# Altium footprint library Crystal.PcbLib: 8 footprints
Each footprint in its own frame and in the unit in brackets; x right, y up, seen from the top. Pads: shape width x height; smd on the part's side, far side on the other; paste and mask are expansions set on the pad; w line width, h text height; cw(c..) or ccw(c..) is an arc to the next point about the centre after c.
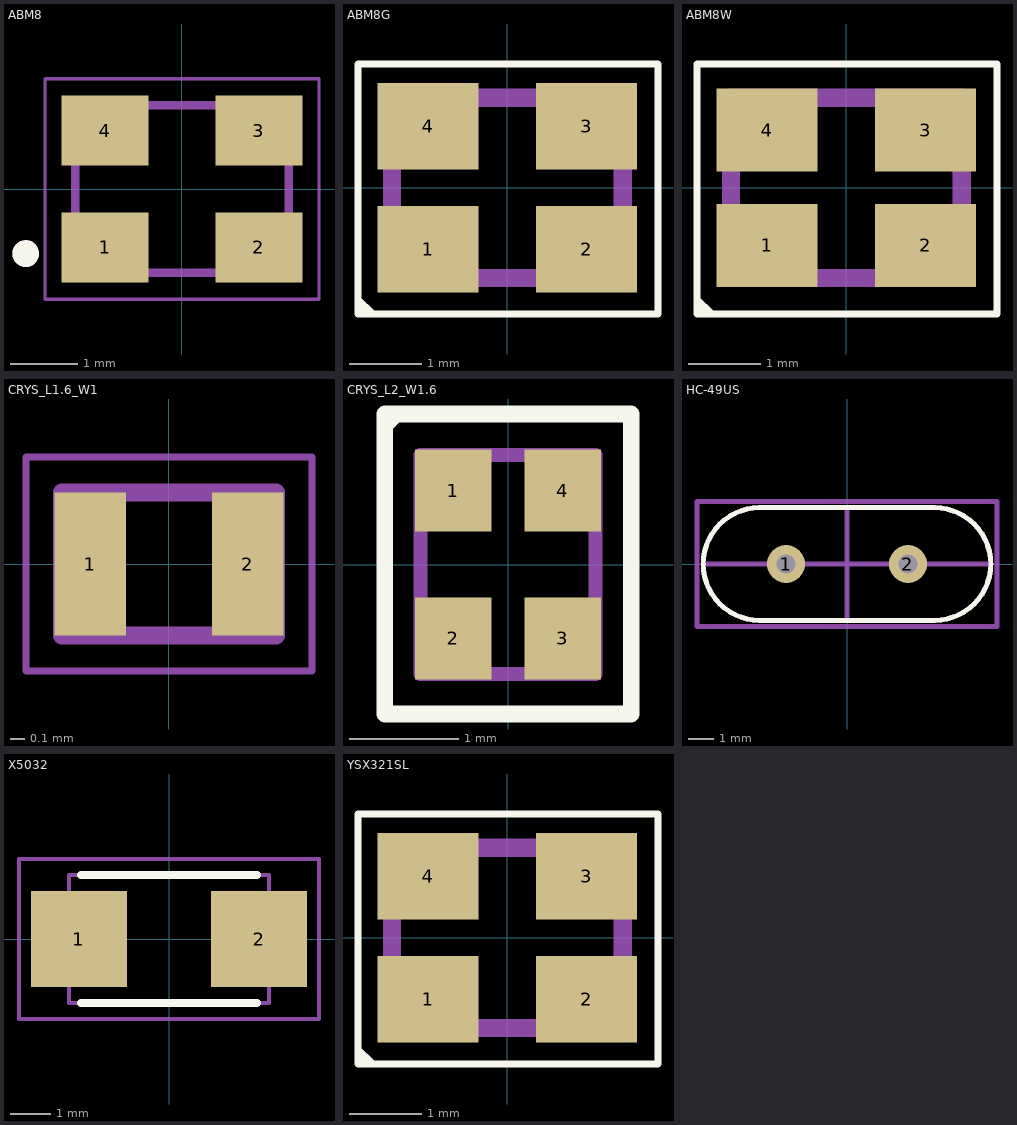
[diagram p0: the footprints below, top view; thin cyan lines are the x and y axes]

## ABM8 [mm]
pads (4):
  rect 1.3x1.05 smd: 1(-1.15,-0.875) 2(1.15,-0.875) 3(1.15,0.875) 4(-1.15,0.875)
Top Overlay:
  circle w0.2: c-2.338,-0.966 r0.1
Mechanical 13:
  circle w0.2: c-2.338,-0.966 r0.1
  lines w0.127: -1.6,-1.25 -1.6,1.25 1.6,1.25 1.6,-1.25 -1.6,-1.25
Mechanical 15:
  lines w0.05: -2.05,-1.65 -2.05,1.65 2.05,1.65 2.05,-1.65 -2.05,-1.65
3D body "step_temp.STEP": height 0.7, standoff 0, extent -1.6,-1.25 1.6,1.25

## ABM8G [mm]
pads (4):
  rect 1.4x1.2 smd: 1(-1.1,-0.85) 2(1.1,-0.85) 3(1.1,0.85) 4(-1.1,0.85)
Top Overlay:
  lines w0.1: -2.071,-1.528 -2.071,-1.547 -1.887,-1.732 -2.014,-1.732 -2.025,-1.72 -2.025,-1.618 ; -2.071,-1.75 -2.071,1.716 2.089,1.716 2.089,-1.75 -2.071,-1.75
Mechanical 13:
  lines w0.254: -1.6,-1.25 -1.6,1.25 1.6,1.25 1.6,-1.25 -1.6,-1.25
3D body "ABM8G-13.560MHZ-18-D2Y-T.stp": height 1, standoff 0, extent -1.61,-1.325 1.6,1.172

## ABM8W [mm]
pads (4):
  rect 1.4x1.15 smd mask+0.05: 1(-1.1,-0.8) 2(1.1,-0.8) 3(1.1,0.8) 4(-1.1,0.8)
Top Overlay:
  lines w0.1: -2.071,-1.528 -2.071,-1.547 -1.887,-1.732 -2.014,-1.732 -2.025,-1.72 -2.025,-1.618 ; -2.071,-1.75 2.089,-1.75 2.089,1.716 -2.071,1.716 -2.071,-1.75
Mechanical 13:
  lines w0.254: -1.6,-1.25 1.6,-1.25 1.6,1.25 -1.6,1.25 -1.6,-1.25
3D body "ABM8W-40.0000MHZ-4-B1U-T3.step": height 0.76, standoff 0.01, extent -1.596,-1.186 1.605,1.314

## CRYS_L1.6_W1 [mm]
pads (2):
  rect 0.5x1 smd: 1(-0.55,0) 2(0.55,0)
Mechanical 13:
  lines w0.127: -0.75,-0.5 0.75,-0.5 0.75,0.5 -0.75,0.5 -0.75,-0.5
Mechanical 15:
  lines w0.05: -1,-0.75 1,-0.75 1,0.75 -1,0.75 -1,-0.75
3D body "ECS-_327-6-16R-TR_ECS.step": height 0.51, standoff 0, extent -0.8,-0.495 0.8,0.495

## CRYS_L2_W1.6 [mm]
pads (4):
  rect 0.7x0.75 smd: 1(-0.5,0.675) 2(-0.5,-0.675) 3(0.5,-0.675) 4(0.5,0.675)
Top Overlay:
  lines w0.152: -1.123,1.276 -1.121,1.276 -1.04,1.356 ; -1.121,1.264 -1.121,1.291 ; -1.125,-1.364 1.125,-1.364 1.125,1.375 -1.125,1.375 -1.125,-1.364
Mechanical 13:
  lines w0.127: -0.8,-1 -0.8,1 0.8,1 0.8,-1 -0.8,-1
Mechanical 15:
  lines w0.05: -1.125,-1.364 -1.125,1.375 1.125,1.375 1.125,-1.364 -1.125,-1.364
3D body "step_temp.STEP": height 0.7, standoff 0, extent -0.8,-1 0.8,1

## HC-49US [mil]
pads (2):
  round 60 hole 30: 1(-96.06,0) 2(96.06,0)
Top Overlay:
  lines w7.87: -226.38,0 cw(c-137.8,0) -137.8,88.58 0,88.58 137.8,88.58 cw(c137.8,0) 226.38,0 cw(c137.8,0) 137.8,-88.58 0,-88.58 -137.8,-88.58 cw(c-137.8,0) -226.38,0
Mechanical 13:
  lines w7.87: -226.38,0 cw(c-137.8,0) -137.8,88.58 0,88.58 ; -226.38,0 ccw(c-137.8,0) -137.8,-88.58 0,-88.58 ; -226.38,0 0,0 ; 0,-88.58 0,0 ; 0,-88.58 137.8,-88.58 ccw(c137.8,0) 226.38,0 ; 0,0 226.38,0 ; 0,0 0,88.58 ; 0,88.58 137.8,88.58 cw(c137.8,0) 226.38,0
Mechanical 15:
  lines w7.87: -236.22,-98.43 236.22,-98.43 236.22,98.43 -236.22,98.43 -236.22,88.58 -236.22,-98.43
3D body "crystal_hc49.STEP": height 141.73, standoff -196.85, extent -223.43,-91.54 223.43,91.54

## X5032 [mm]
pads (2):
  rect 2.4x2.4 smd: 1(-2.25,0) 2(2.25,0)
Top Overlay:
  lines w0.2: -2.2,-1.6 2.2,-1.6 ; -2.2,1.6 2.2,1.6
Mechanical 13:
  lines w0.1: -2.5,-1.6 2.5,-1.6 2.5,1.6 -2.5,1.6 -2.5,-1.6
Mechanical 15:
  lines w0.1: -3.75,-2 3.75,-2 3.75,2 -3.75,2 -3.75,-2
3D body "X503212MSB2GI.stp": height 1.45, standoff 0, extent -2.53,-1.6 2.53,1.6

## YSX321SL [mm]
pads (4):
  rect 1.4x1.2 smd: 1(-1.1,-0.85) 2(1.1,-0.85) 3(1.1,0.85) 4(-1.1,0.85)
Top Overlay:
  lines w0.1: -2.071,-1.528 -2.071,-1.547 -1.887,-1.732 -2.014,-1.732 -2.025,-1.72 -2.025,-1.618 ; -2.071,-1.75 -2.071,1.716 2.089,1.716 2.089,-1.75 -2.071,-1.75
Mechanical 13:
  lines w0.254: -1.6,-1.25 -1.6,1.25 1.6,1.25 1.6,-1.25 -1.6,-1.25
3D body "ABM8G-13.560MHZ-18-D2Y-T.stp": height 1, standoff 0, extent -1.61,-1.325 1.6,1.172